# EAGLE library part FHS_40-P (library sc_usercreated)
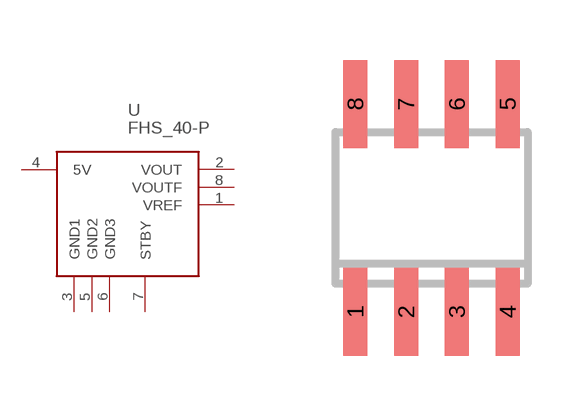
[diagram p25: symbol with the pads of SOIC8; footprint SOIC8]

Designator prefix U

## FHS_40-P  [SOIC8]
1  VREF
2  VOUT
3  GND1
4  5V
5  GND2
6  GND3
7  STBY
8  VOUTF

## Footprint SOIC8 (pad centres in mm)
smd 0.6 x 2.2: 1 -1.905,-2.6; 2 -0.635,-2.6; 3 0.635,-2.6; 4 1.905,-2.6; 5 1.905,2.6; 6 0.635,2.6; 7 -0.635,2.6; 8 -1.905,2.6